# Altium schematic symbol library Schlib1.SchLib: 21 symbols
Pins are listed as number, name and electrical type; pins without a type are passive.

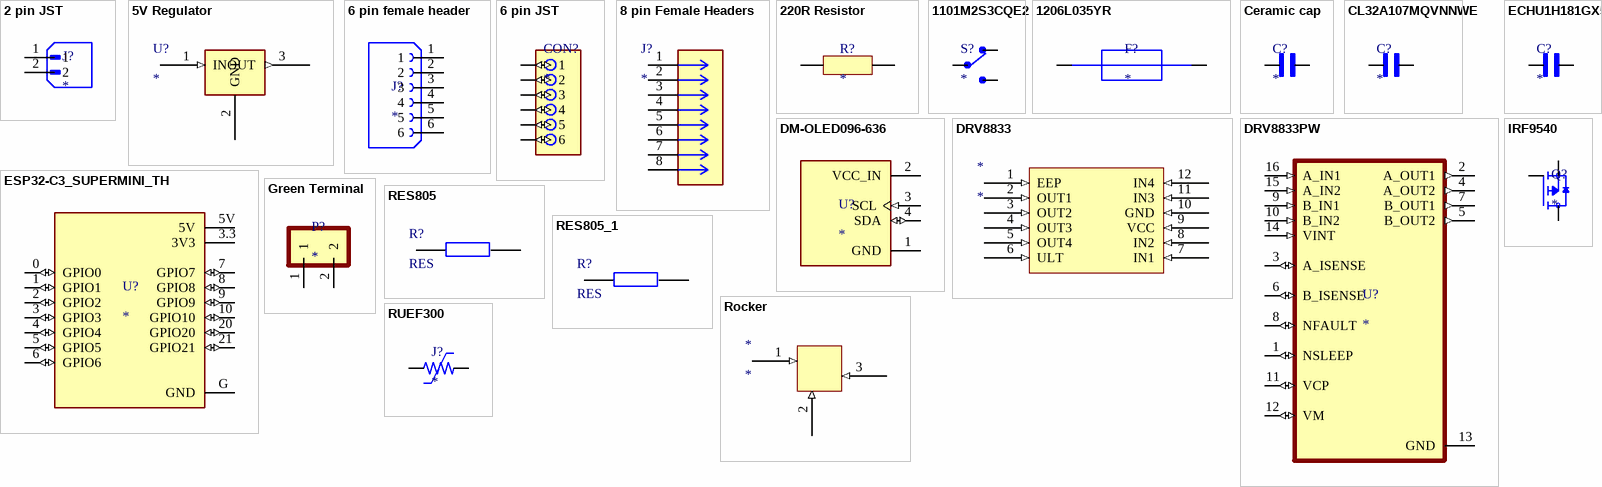
[diagram p0: symbols 2 pin JST to RUEF300]

## 2 pin JST
designator J?
MF: {'manufacturer': u'JST Sales America Inc.'}; MP: B2B-XH-A; Package: None; Price: None; Value: *; Availability: Unavailable
footprint 2 pin JST
pins: 1, 2

## 5V Regulator
designator U?
footprint 5V Regulator
pins: 1 IN (in), 2 GND (power), 3 OUT (out)

## 6 pin female header
designator J?
MF: Sullins Connector Solutions; MP: PPTC061LFBNRC; SnapEDA_Link: https://www.snapeda.com/parts/PPTC061LFBNRC/Sullins/view-part/?ref=snap; Package: None; Value: *; Check_prices: https://www.snapeda.com/parts/PPTC061LFBNRC/Sullins/view-part/?ref=eda
footprint 6 pin female header
pins: 1, 2, 3, 4, 5, 6

## 6 pin JST
designator CON?
Connector Header Surface Mount 6 position 0.059 (1.50mm); MF: JST; MP: B6B-ZR; SnapEDA_Link: https://www.snapeda.com/parts/B6B-ZR/JST/view-part/?ref=snap; Package: None; Value: *; Check_prices: https://www.snapeda.com/parts/B6B-ZR/JST/view-part/?ref=eda
footprint 6 pin JST
pins: 1 (io), 2 (io), 3 (io), 4 (io), 5 (io), 6 (io)

## 8 pin Female Headers
designator J?
MP: 395011008; Package: None; Price: None; Value: *; Availability: Unavailable
footprint 8 Pin Female Headers
pins: 1, 2, 3, 4, 5, 6, 7, 8

## 220R Resistor
designator R?
Value: 220R
footprint 220R Resistor
pins: 1, 2

## 1101M2S3CQE2
designator S?
Switch,Slide,Sealed,SPDT,ON-NONE-ON,PC Mnt,.200 Blk Act,6A,120VAC,PC Thru-Hole | C&K 1101M2S3CQE2; SnapEDA_Link: https://www.snapeda.com/parts/1101M2S3CQE2/C%2526K/view-part/?ref=snap; Package: None; Value: *; MF: C&K; MP: 1101M2S3CQE2; Check_prices: https://www.snapeda.com/parts/1101M2S3CQE2/C%2526K/view-part/?ref=eda
footprint SW_1101M2S3CQE2
pins: 1, 2, 3

## 1206L035YR
designator F?
Polymeric PTC Resettable Fuse 6V 350 mA Ih Surface Mount 1206 (3216 Metric), Concave; MF: Littelfuse Inc.; MP: 1206L035YR; SnapEDA_Link: https://www.snapeda.com/parts/1206L035YR/Littelfuse/view-part/?ref=snap; Package: 1206 Littelfuse; Value: *; Check_prices: https://www.snapeda.com/parts/1206L035YR/Littelfuse/view-part/?ref=eda
footprint FUSC3216X75N
pins: 1, 2

## Ceramic cap
designator C?
Lead Capacitor X7R_EIA_ with Capacitance: 0.10F and Rated Voltage: 1000Vdc; MF: Murata; MP: RDER73A104K5E1H03A; Value: *; Price: None; SnapEDA_Link: https://www.snapeda.com/parts/RDER73A104K5E1H03A/Murata/view-part/4545952/?ref=snap; Package: Radial Murata; Availability: Unavailable
footprint CAP_RDER73A104K5E1H03A
pins: 1, 2

## CL32A107MQVNNWE
designator C?
100 ÂµF Â±20% 6.3V Ceramic Capacitor X5R 1210 (3225 Metric); MF: Samsung; MP: CL32A107MQVNNWE; SnapEDA_Link: https://www.snapeda.com/parts/CL32A107MQVNNWE/Samsung/view-part/?ref=snap; Package: SMD-2 Samsung; Value: *; Check_prices: https://www.snapeda.com/parts/CL32A107MQVNNWE/Samsung/view-part/?ref=eda
footprint CAPC3225X280N
pins: 1, 2

## DM-OLED096-636
designator U?
0.96â€ 128 X 64 MONOCHROME GRAPHIC OLED DISPLAY MODULE - I2C; MP: DM-OLED096-636; SnapEDA_Link: https://www.snapeda.com/parts/DM-OLED096-636/Display+Module/view-part/?ref=snap; Package: Package; Value: *; MF: Display Module; Check_prices: https://www.snapeda.com/parts/DM-OLED096-636/Display+Module/view-part/?ref=eda
footprint MODULE_DM-OLED096-636
pins: 1 GND (power), 2 VCC_IN (power), 3 SCL (in), 4 SDA (io)

## DRV8833
designator *
footprint MOD-DRV8833
pins: 1 EEP (in), 2 OUT1 (in), 3 OUT2 (in), 4 OUT3 (in), 5 OUT4 (in), 6 ULT (in), 7 IN1 (in), 8 IN2 (in), 9 VCC (in), 10 GND (in), 11 IN3 (in), 12 IN4 (in)

## DRV8833PW
designator U?
10.8-V, 2-A dual H-bridge motor driver with current regulation; MF: Texas Instruments; MP: DRV8833PW; SnapEDA_Link: https://www.snapeda.com/parts/DRV8833PW/Texas+Instruments/view-part/?ref=snap; Package: TSSOP-16 Texas Instruments; Value: *; Check_prices: https://www.snapeda.com/parts/DRV8833PW/Texas+Instruments/view-part/?ref=eda
footprint SOP65P640X120-16N
pins: 1 NSLEEP (io), 2 A_OUT1 (out), 3 A_ISENSE (io), 4 A_OUT2 (out), 5 B_OUT2 (out), 6 B_ISENSE (io), 7 B_OUT1 (out), 8 NFAULT (io), 9 B_IN1 (in), 10 B_IN2 (in), 11 VCP (io), 12 VM (io), 13 GND (power), 14 VINT (in), 15 A_IN2 (in), 16 A_IN1 (in)

## ECHU1H181GX5
designator C?
Capacitor Pps Film, 180pf, 50v, 2%, 0805capacitor Pps Film, 180pf, 50v, 2%, 0805; MF: Panasonic; MP: ECHU1H181GX5; Digi-Key_Part_Number: PCF1287TR-ND; SnapEDA_Link: https://www.snapeda.com/parts/ECHU1H181GX5/Panasonic/view-part/?ref=snap; Check_prices: https://www.snapeda.com/parts/ECHU1H181GX5/Panasonic/view-part/?ref=eda; Package: 0805-2 Panasonic; Purchase-URL: https://pricing.snapeda.com/search/part/ECHU1H181GX5/?ref=eda; Value: *
footprint CAP_ECHU1H181GX5
pins: 1, 2

## ESP32-C3_SUPERMINI_TH
designator U?
Super tiny ESP32-C3 board; MF: Espressif Systems; MP: ESP32-C3 SuperMini_TH; SnapEDA_Link: https://www.snapeda.com/parts/ESP32-C3%20SuperMini_TH/Espressif+Systems/view-part/?ref=snap; Package: Package; Value: *; Check_prices: https://www.snapeda.com/parts/ESP32-C3%20SuperMini_TH/Espressif+Systems/view-part/?ref=eda
footprint MODULE_ESP32-C3_SUPERMINI_TH
pins: 0 GPIO0 (io), 1 GPIO1 (io), 2 GPIO2 (io), 3 GPIO3 (io), 3.3 3V3 (power), 4 GPIO4 (io), 5 GPIO5 (io), 5V (power), 6 GPIO6 (io), 7 GPIO7 (io), 8 GPIO8 (io), 9 GPIO9 (io), 10 GPIO10 (io), 20 GPIO20 (io), 21 GPIO21 (io), G GND (power)

## Green Terminal
designator P?
Ð Ð°Ð·ÑŠÐµÐ¼Ð½Ñ‹Ðµ ÐºÐ»ÐµÐ¼Ð¼Ð½Ñ‹Ðµ ÐºÐ¾Ð»Ð¾Ð´ÐºÐ¸ Ð Ð¾Ð·ÐµÑ‚ÐºÐ° 2 Ð¿Ð¾Ð»Ð¾Ð¶ÐµÐ½Ð¸Ñ 5,08 Ð¼Ð¼ ÐŸÑ€Ð¸Ð¿Ð¾Ð¹ Ð¿Ñ€ÑÐ¼Ð¾Ð¹ Ñ‡ÐµÑ€ÐµÐ· Ð¾Ñ‚Ð²ÐµÑ€ÑÑ‚Ð¸Ðµ 13,5 Ð / ÐºÐ¾Ð½Ñ‚Ð°ÐºÑ‚; MF: TE Connectivity; MP: 282837-2; SnapEDA_Link: https://www.snapeda.com/parts/282837-2/TE+Connectivity+AMP+Connectors/view-part/?ref=snap; Price: None; Check_prices: https://www.snapeda.com/parts/282837-2/TE+Connectivity+AMP+Connectors/view-part/?ref=eda; Purchase-URL: https://pricing.snapeda.com/search/part/282837-2/?ref=eda; Value: *; Availability: In Stock; Package: None
footprint Green Terminal
pins: 1, 2

## IRF9540
designator Q?
P-Channel 100 V 19A (Tc) 3.7W (Ta), 150W (Tc) Surface Mount DÂ²PAK (TO-263); MF: Vishay; MP: IRF9540; SnapEDA_Link: https://www.snapeda.com/parts/IRF9540/Vishay+Siliconix/view-part/?ref=snap; Package: TO-220-3 Vishay; Value: *; Check_prices: https://www.snapeda.com/parts/IRF9540/Vishay+Siliconix/view-part/?ref=eda
footprint TO254P1052X465X1989-3
pins: 1 G, 2 D, 3 S

## RES805
designator R?, comment RES
RESISTOR SMD
footprint RES805
pins: 1, 2

## RES805_1
designator R?, comment RES
RESISTOR SMD
footprint RES805
pins: 1, 2

## Rocker
designator *
footprint rocker
pins: 1 (in), 2 (in), 3 (in)

## RUEF300
designator J?
Polymeric PTC Resettable Fuse 30V 3 A Ih Through Hole Radial, Disc; MF: Littelfuse Inc.; MP: RUEF300; SnapEDA_Link: https://www.snapeda.com/parts/RUEF300/Littelfuse/view-part/?ref=snap; Package: Radial Littelfuse; Value: *; Check_prices: https://www.snapeda.com/parts/RUEF300/Littelfuse/view-part/?ref=eda
footprint RUEF300
pins: P$1 1, P$2 2